# Altium footprint library ESP32.PcbLib: 12 footprints
Each footprint in its own frame and in the unit in brackets; x right, y up, seen from the top. Pads: shape width x height; smd on the part's side, far side on the other; paste and mask are expansions set on the pad; w line width, h text height; cw(c..) or ccw(c..) is an arc to the next point about the centre after c.
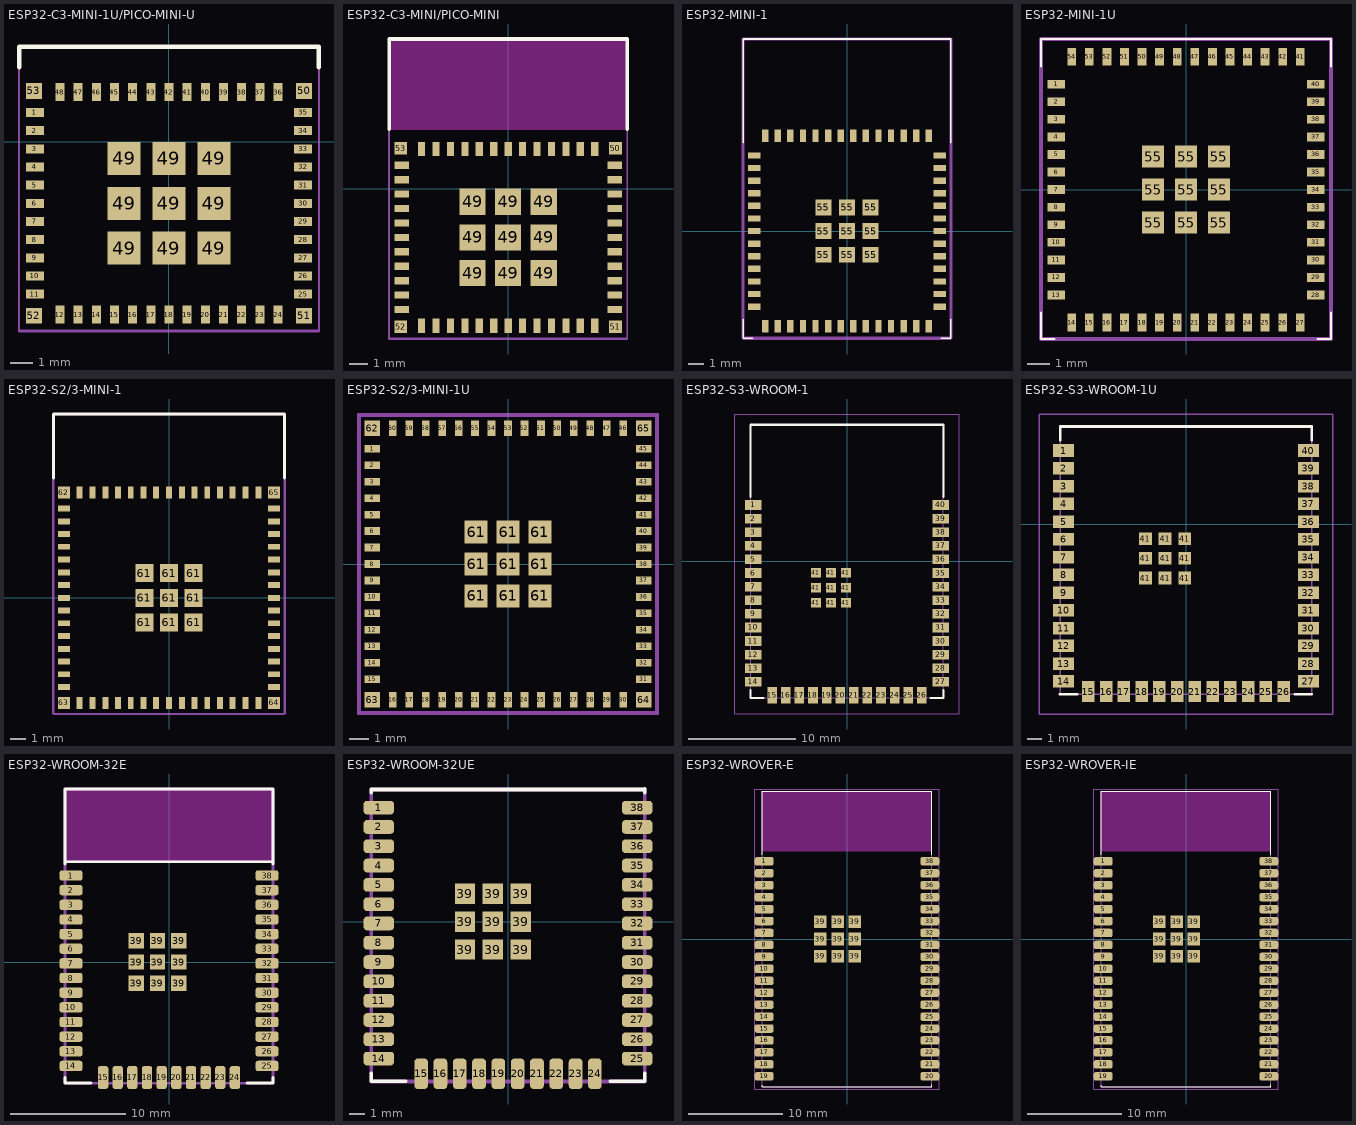
[diagram p0: the footprints below, top view; thin cyan lines are the x and y axes]

## ESP32-C3-MINI-1U/PICO-MINI-U [mm] "IPEX ANTENNA - 53 PIN"
pads (61):
  rect 0.8x0.4 smd: 1(-5.9,1.3) 2(-5.9,0.5) 3(-5.9,-0.3) 4(-5.9,-1.1) 5(-5.9,-1.9) 6(-5.9,-2.7) 7(-5.9,-3.5) 8(-5.9,-4.3) 9(-5.9,-5.1) 10(-5.9,-5.9) 11(-5.9,-6.7) 25(5.9,-6.7) 26(5.9,-5.9) 27(5.9,-5.1) 28(5.9,-4.3) 29(5.9,-3.5) 30(5.9,-2.7) 31(5.9,-1.9) 32(5.9,-1.1) 33(5.9,-0.3) 34(5.9,0.5) 35(5.9,1.3)
  rect 0.4x0.8 smd: 12(-4.8,-7.6) 13(-4,-7.6) 14(-3.2,-7.6) 15(-2.4,-7.6) 16(-1.6,-7.6) 17(-0.8,-7.6) 18(0,-7.6) 19(0.8,-7.6) 20(1.6,-7.6) 21(2.4,-7.6) 22(3.2,-7.6) 23(4,-7.6) 24(4.8,-7.6) 36(4.8,2.2) 37(4,2.2) 38(3.2,2.2) 39(2.4,2.2) 40(1.6,2.2) 41(0.8,2.2) 42(0,2.2) 43(-0.8,2.2) 44(-1.6,2.2) 45(-2.4,2.2) 46(-3.2,2.2) 47(-4,2.2) 48(-4.8,2.2)
  rect 1.45x1.45 smd: 49(-1.975,-4.675) 49(-1.975,-2.7) 49(-1.975,-0.725) 49(0,-4.675) 49(0,-2.7) 49(0,-0.725) 49(1.975,-4.675) 49(1.975,-2.7) 49(1.975,-0.725)
  rect 0.7x0.7 smd: 50(5.95,2.25) 51(5.95,-7.65) 52(-5.95,-7.65) 53(-5.95,2.25)
Top Overlay:
  lines w0.2: -6.6,3.3 -6.6,4.195 ; -6.6,4.191 6.6,4.191 6.6,3.3
Mechanical 13:
  lines w0.1: -6.6,-8.3 6.6,-8.3 6.6,4.191 -6.6,4.191 -6.6,-8.3
Mechanical 15:
  lines w0.1: -6.604,-8.335 6.604,-8.335 6.604,4.191 -6.604,4.191 -6.604,-8.335
3D body "ESP32-PICO-MINI-02U.STEP": height 2.4, standoff 0, extent -6.596,-8.3 6.604,4.2

## ESP32-C3-MINI/PICO-MINI [mm] "PCB ANTENNA - 53 PIN"
pads (61):
  rect 0.8x0.4 smd: 1(-5.9,1.3) 2(-5.9,0.5) 3(-5.9,-0.3) 4(-5.9,-1.1) 5(-5.9,-1.9) 6(-5.9,-2.7) 7(-5.9,-3.5) 8(-5.9,-4.3) 9(-5.9,-5.1) 10(-5.9,-5.9) 11(-5.9,-6.7) 25(5.9,-6.7) 26(5.9,-5.9) 27(5.9,-5.1) 28(5.9,-4.3) 29(5.9,-3.5) 30(5.9,-2.7) 31(5.9,-1.9) 32(5.9,-1.1) 33(5.9,-0.3) 34(5.9,0.5) 35(5.9,1.3)
  rect 0.4x0.8 smd: 12(-4.8,-7.6) 13(-4,-7.6) 14(-3.2,-7.6) 15(-2.4,-7.6) 16(-1.6,-7.6) 17(-0.8,-7.6) 18(0,-7.6) 19(0.8,-7.6) 20(1.6,-7.6) 21(2.4,-7.6) 22(3.2,-7.6) 23(4,-7.6) 24(4.8,-7.6) 36(4.8,2.2) 37(4,2.2) 38(3.2,2.2) 39(2.4,2.2) 40(1.6,2.2) 41(0.8,2.2) 42(0,2.2) 43(-0.8,2.2) 44(-1.6,2.2) 45(-2.4,2.2) 46(-3.2,2.2) 47(-4,2.2) 48(-4.8,2.2)
  rect 1.45x1.45 smd: 49(-1.975,-4.675) 49(-1.975,-2.7) 49(-1.975,-0.725) 49(0,-4.675) 49(0,-2.7) 49(0,-0.725) 49(1.975,-4.675) 49(1.975,-2.7) 49(1.975,-0.725)
  rect 0.7x0.7 smd: 50(5.95,2.25) 51(5.95,-7.65) 52(-5.95,-7.65) 53(-5.95,2.25)
Top Overlay:
  lines w0.2: -6.6,8.3 -6.6,3.3 -6.6,8.3 ; -6.6,8.3 6.6,8.3 ; -6.6,8.3 6.6,8.3 ; 6.6,8.3 6.6,3.3 6.6,8.3
Keep-Out Layer:
  region: 6.6,3.28 -6.623,3.28 -6.623,8.3 6.6,8.3
Mechanical 13:
  lines w0.1: -6.6,-8.3 6.6,-8.3 6.6,8.3 -6.6,8.3 -6.6,-8.3
Mechanical 15:
  lines w0.1: -6.604,-8.335 6.604,-8.335 6.604,8.255 -6.604,8.255 -6.604,-8.335
3D body "ESP32-PICO-MINI-02.STEP": height 2.4, standoff 0, extent -6.596,-8.3 6.604,8.3

## ESP32-MINI-1 [mm] "PCB ANTENNA - 55 PIN"
pads (63):
  rect 0.8x0.4 smd: 1(-5.9,4.8) 2(-5.9,4) 3(-5.9,3.2) 4(-5.9,2.4) 5(-5.9,1.6) 6(-5.9,0.8) 7(-5.9,0) 8(-5.9,-0.8) 9(-5.9,-1.6) 10(-5.9,-2.4) 11(-5.9,-3.2) 12(-5.9,-4) 13(-5.9,-4.8) 28(5.9,-4.8) 29(5.9,-4) 30(5.9,-3.2) 31(5.9,-2.4) 32(5.9,-1.6) 33(5.9,-0.8) 34(5.9,0) 35(5.9,0.8) 36(5.9,1.6) 37(5.9,2.4) 38(5.9,3.2) 39(5.9,4) 40(5.9,4.8)
  rect 0.4x0.8 smd: 14(-5.2,-6.05) 15(-4.4,-6.05) 16(-3.6,-6.05) 17(-2.8,-6.05) 18(-2,-6.05) 19(-1.2,-6.05) 20(-0.4,-6.05) 21(0.4,-6.05) 22(1.2,-6.05) 23(2,-6.05) 24(2.8,-6.05) 25(3.6,-6.05) 26(4.4,-6.05) 27(5.2,-6.05) 41(5.2,6.05) 42(4.4,6.05) 43(3.6,6.05) 44(2.8,6.05) 45(2,6.05) 46(1.2,6.05) 47(0.4,6.05) 48(-0.4,6.05) 49(-1.2,6.05) 50(-2,6.05) 51(-2.8,6.05) 52(-3.6,6.05) 53(-4.4,6.05) 54(-5.2,6.05)
  rect 1x1 smd: 55(-1.5,-1.5) 55(-1.5,0) 55(-1.5,1.5) 55(0,-1.5) 55(0,0) 55(0,1.5) 55(1.5,-1.5) 55(1.5,0) 55(1.5,1.5)
Top Overlay:
  lines w0.1: -6.6,-6.8 -6,-6.8 -6.6,-6.8 ; -6.6,-6.8 -6.6,-5.6 -6.6,-6.8 ; -6.6,12.2 6.6,12.2 ; -6.6,12.2 6.6,12.2 ; -6.6,12.2 -6.6,5.6 -6.6,12.2 ; 6.6,-6.8 6.6,-5.6 6.6,-6.8 ; 6.6,-6.8 6,-6.8 6.6,-6.8 ; 6.6,12.2 6.6,5.6 6.6,12.2
Mechanical 13:
  lines w0.2: -6.6,-6.8 -6.6,12.2 6.6,12.2 6.6,-6.8 -6.6,-6.8
Mechanical 15:
  lines w0.1: -6.604,-6.858 -6.604,12.192 6.604,12.192 6.604,-6.858 -6.604,-6.858
3D body "ESP32-MINI-1.STEP": height 2.4, standoff 0, extent -6.6,-6.8 6.6,12.2

## ESP32-MINI-1U [mm] "IPEX ANTENNA - 55 PIN"
pads (63):
  rect 0.8x0.4 smd: 1(-5.9,4.8) 2(-5.9,4) 3(-5.9,3.2) 4(-5.9,2.4) 5(-5.9,1.6) 6(-5.9,0.8) 7(-5.9,0) 8(-5.9,-0.8) 9(-5.9,-1.6) 10(-5.9,-2.4) 11(-5.9,-3.2) 12(-5.9,-4) 13(-5.9,-4.8) 28(5.9,-4.8) 29(5.9,-4) 30(5.9,-3.2) 31(5.9,-2.4) 32(5.9,-1.6) 33(5.9,-0.8) 34(5.9,0) 35(5.9,0.8) 36(5.9,1.6) 37(5.9,2.4) 38(5.9,3.2) 39(5.9,4) 40(5.9,4.8)
  rect 0.4x0.8 smd: 14(-5.2,-6.05) 15(-4.4,-6.05) 16(-3.6,-6.05) 17(-2.8,-6.05) 18(-2,-6.05) 19(-1.2,-6.05) 20(-0.4,-6.05) 21(0.4,-6.05) 22(1.2,-6.05) 23(2,-6.05) 24(2.8,-6.05) 25(3.6,-6.05) 26(4.4,-6.05) 27(5.2,-6.05) 41(5.2,6.05) 42(4.4,6.05) 43(3.6,6.05) 44(2.8,6.05) 45(2,6.05) 46(1.2,6.05) 47(0.4,6.05) 48(-0.4,6.05) 49(-1.2,6.05) 50(-2,6.05) 51(-2.8,6.05) 52(-3.6,6.05) 53(-4.4,6.05) 54(-5.2,6.05)
  rect 1x1 smd: 55(-1.5,-1.5) 55(-1.5,0) 55(-1.5,1.5) 55(0,-1.5) 55(0,0) 55(0,1.5) 55(1.5,-1.5) 55(1.5,0) 55(1.5,1.5)
Top Overlay:
  lines w0.1: -6.604,6.858 -6.6,5.6 -6.604,6.858 ; -6.604,6.858 6.6,6.858 ; -6.6,-6.8 -6.6,-5.6 -6.6,-6.8 ; -6.6,-6.8 -6,-6.8 -6.6,-6.8 ; 6.6,-6.8 6,-6.8 6.6,-6.8 ; 6.6,-6.8 6.6,-5.6 6.6,-6.8 ; 6.6,6.858 6.6,5.6 6.6,6.858
Mechanical 13:
  lines w0.2: -6.6,-6.8 6.6,-6.8 6.6,6.858 -6.6,6.858 -6.6,-6.8
Mechanical 15:
  lines w0.1: -6.604,-6.788 6.604,-6.788 6.604,6.858 -6.604,6.858 -6.604,-6.788

## ESP32-S2/3-MINI-1 [mm] "PCB ANTENNA - 65 PIN"
pads (73):
  rect 0.8x0.4 smd: 1(-7,5.95) 2(-7,5.1) 3(-7,4.25) 4(-7,3.4) 5(-7,2.55) 6(-7,1.7) 7(-7,0.85) 8(-7,0) 9(-7,-0.85) 10(-7,-1.7) 11(-7,-2.55) 12(-7,-3.4) 13(-7,-4.25) 14(-7,-5.1) 15(-7,-5.95) 31(7,-5.95) 32(7,-5.1) 33(7,-4.25) 34(7,-3.4) 35(7,-2.55) 36(7,-1.7) 37(7,-0.85) 38(7,0) 39(7,0.85) 40(7,1.7) 41(7,2.55) 42(7,3.4) 43(7,4.25) 44(7,5.1) 45(7,5.95)
  rect 0.4x0.8 smd: 16(-5.95,-7) 17(-5.1,-7) 18(-4.25,-7) 19(-3.4,-7) 20(-2.55,-7) 21(-1.7,-7) 22(-0.85,-7) 23(0,-7) 24(0.85,-7) 25(1.7,-7) 26(2.55,-7) 27(3.4,-7) 28(4.25,-7) 29(5.1,-7) 30(5.95,-7) 46(5.95,7) 47(5.1,7) 48(4.25,7) 49(3.4,7) 50(2.55,7) 51(1.7,7) 52(0.85,7) 53(0,7) 54(-0.85,7) 55(-1.7,7) 56(-2.55,7) 57(-3.4,7) 58(-4.25,7) 59(-5.1,7) 60(-5.95,7)
  rect 1.2x1.2 smd: 61(-1.65,-1.65) 61(-1.65,0) 61(-1.65,1.65) 61(0,-1.65) 61(0,0) 61(0,1.65) 61(1.65,-1.65) 61(1.65,0) 61(1.65,1.65)
  rect 0.8x0.8 smd: 62(-7,7) 63(-7,-7) 64(7,-7) 65(7,7)
Top Overlay:
  lines w0.2: -7.7,8 -7.7,12.25 7.7,12.25 7.7,8
Mechanical 13:
  lines w0.1: -7.7,-7.75 7.7,-7.75 7.7,12.25 -7.7,12.25 -7.7,-7.75
Mechanical 15:
  lines w0.1: -7.747,-7.747 7.747,-7.747 7.747,12.192 -7.747,12.192 -7.747,-7.747
3D body "ESP32-S2-MINI-1.STEP": height 2.4, standoff 0, extent -7.7,-7.75 7.7,12.25

## ESP32-S2/3-MINI-1U [mm] "IPEX ANTENNA - 65 PIN"
pads (73):
  rect 0.8x0.4 smd: 1(-7,5.95) 2(-7,5.1) 3(-7,4.25) 4(-7,3.4) 5(-7,2.55) 6(-7,1.7) 7(-7,0.85) 8(-7,0) 9(-7,-0.85) 10(-7,-1.7) 11(-7,-2.55) 12(-7,-3.4) 13(-7,-4.25) 14(-7,-5.1) 15(-7,-5.95) 31(7,-5.95) 32(7,-5.1) 33(7,-4.25) 34(7,-3.4) 35(7,-2.55) 36(7,-1.7) 37(7,-0.85) 38(7,0) 39(7,0.85) 40(7,1.7) 41(7,2.55) 42(7,3.4) 43(7,4.25) 44(7,5.1) 45(7,5.95)
  rect 0.4x0.8 smd: 16(-5.95,-7) 17(-5.1,-7) 18(-4.25,-7) 19(-3.4,-7) 20(-2.55,-7) 21(-1.7,-7) 22(-0.85,-7) 23(0,-7) 24(0.85,-7) 25(1.7,-7) 26(2.55,-7) 27(3.4,-7) 28(4.25,-7) 29(5.1,-7) 30(5.95,-7) 46(5.95,7) 47(5.1,7) 48(4.25,7) 49(3.4,7) 50(2.55,7) 51(1.7,7) 52(0.85,7) 53(0,7) 54(-0.85,7) 55(-1.7,7) 56(-2.55,7) 57(-3.4,7) 58(-4.25,7) 59(-5.1,7) 60(-5.95,7)
  rect 1.2x1.2 smd: 61(-1.65,-1.65) 61(-1.65,0) 61(-1.65,1.65) 61(0,-1.65) 61(0,0) 61(0,1.65) 61(1.65,-1.65) 61(1.65,0) 61(1.65,1.65)
  rect 0.8x0.8 smd: 62(-7,7) 63(-7,-7) 64(7,-7) 65(7,7)
Mechanical 13:
  lines w0.2: -7.7,-7.7 -7.7,7.7 7.7,7.7 7.7,-7.7 -7.7,-7.7
Mechanical 15:
  lines w0.1: -7.747,-7.747 -7.747,7.747 7.747,7.747 7.747,-7.747 -7.747,-7.747
3D body "ESP32-S2-MINI-1U.STEP": height 2.4, standoff 0, extent -7.7,-7.7 7.7,7.7

## ESP32-S3-WROOM-1 [mm] "PCB ANTENNA - 41 PIN"
pads (49):
  rect 1.5x0.9 smd: 1(-8.75,5.26) 2(-8.75,3.99) 3(-8.75,2.72) 4(-8.75,1.45) 5(-8.75,0.18) 6(-8.75,-1.09) 7(-8.75,-2.36) 8(-8.75,-3.63) 9(-8.75,-4.9) 10(-8.75,-6.17) 11(-8.75,-7.44) 12(-8.75,-8.71) 13(-8.75,-9.98) 14(-8.75,-11.25) 27(8.75,-11.25) 28(8.75,-9.98) 29(8.75,-8.71) 30(8.75,-7.44) 31(8.75,-6.17) 32(8.75,-4.9) 33(8.75,-3.63) 34(8.75,-2.36) 35(8.75,-1.09) 36(8.75,0.18) 37(8.75,1.45) 38(8.75,2.72) 39(8.75,3.99) 40(8.75,5.26)
  rect 0.9x1.5 smd: 15(-6.985,-12.5) 16(-5.715,-12.5) 17(-4.445,-12.5) 18(-3.175,-12.5) 19(-1.905,-12.5) 20(-0.635,-12.5) 21(0.635,-12.5) 22(1.905,-12.5) 23(3.175,-12.5) 24(4.445,-12.5) 25(5.715,-12.5) 26(6.985,-12.5)
  rect 0.9x0.9 smd: 41(-2.9,-3.86) 41(-2.9,-2.46) 41(-2.9,-1.06) 41(-1.5,-3.86) 41(-1.5,-2.46) 41(-1.5,-1.06) 41(-0.1,-3.86) 41(-0.1,-2.46) 41(-0.1,-1.06)
Top Overlay:
  lines w0.2: -9,-12 -9,-12.75 -7.8,-12.75 ; -9,6 -9,12.75 9,12.75 9,6 ; 7.8,-12.75 9,-12.75 9,-12
Mechanical 13:
  lines w0.1: -9,-12.75 -9,12.75 9,12.75 9,-12.75 -9,-12.75
Mechanical 15:
  lines w0.1: -10.5,-14.25 -10.5,13.75 10.5,13.75 10.5,-14.25 -10.5,-14.25
3D body "ESP32-S3-WROOM-1.STEP": height 3.1, standoff 0, extent -9,-12.75 9,12.75

## ESP32-S3-WROOM-1U [mm] "IPEX ANTENNA - 41 PIN"
pads (49):
  rect 1.5x0.9 smd: 1(-8.75,5.26) 2(-8.75,3.99) 3(-8.75,2.72) 4(-8.75,1.45) 5(-8.75,0.18) 6(-8.75,-1.09) 7(-8.75,-2.36) 8(-8.75,-3.63) 9(-8.75,-4.9) 10(-8.75,-6.17) 11(-8.75,-7.44) 12(-8.75,-8.71) 13(-8.75,-9.98) 14(-8.75,-11.25) 27(8.75,-11.25) 28(8.75,-9.98) 29(8.75,-8.71) 30(8.75,-7.44) 31(8.75,-6.17) 32(8.75,-4.9) 33(8.75,-3.63) 34(8.75,-2.36) 35(8.75,-1.09) 36(8.75,0.18) 37(8.75,1.45) 38(8.75,2.72) 39(8.75,3.99) 40(8.75,5.26)
  rect 0.9x1.5 smd: 15(-6.985,-11.992) 16(-5.715,-11.992) 17(-4.445,-11.992) 18(-3.175,-11.992) 19(-1.905,-11.992) 20(-0.635,-11.992) 21(0.635,-11.992) 22(1.905,-11.992) 23(3.175,-11.992) 24(4.445,-11.992) 25(5.715,-11.992) 26(6.985,-11.992)
  rect 0.9x0.9 smd: 41(-2.9,-3.86) 41(-2.9,-2.46) 41(-2.9,-1.06) 41(-1.5,-3.86) 41(-1.5,-2.46) 41(-1.5,-1.06) 41(-0.1,-3.86) 41(-0.1,-2.46) 41(-0.1,-1.06)
Top Overlay:
  lines w0.2: -9.006,-12.172 -7.806,-12.172 ; -9,6 -9,6.985 9,6.985 9,6 ; 7.794,-12.172 8.994,-12.172
Mechanical 13:
  lines w0.1: -9,-12.192 -9,6.985 9,6.985 9,-12.192 -9,-12.192
Mechanical 15:
  lines w0.1: -10.5,-13.589 -10.5,7.874 10.5,7.874 10.5,-13.589 -10.5,-13.589
3D body "ESP32-S3-WROOM-1U.STEP": height 3.2, standoff 0, extent -9.017,-12.192 8.983,7.008

## ESP32-WROOM-32E [mm] "PCB ANTENNA - 38 PIN"
height 3.2
pads (47):
  rrect50% 2x0.9 smd: 1(-8.5,7.5) 2(-8.5,6.23) 3(-8.5,4.96) 4(-8.5,3.69) 5(-8.5,2.42) 6(-8.5,1.15) 7(-8.5,-0.12) 8(-8.5,-1.39) 9(-8.5,-2.66) 10(-8.5,-3.93) 11(-8.5,-5.2) 12(-8.5,-6.47) 13(-8.5,-7.74) 14(-8.5,-9.01) 25(8.5,-9.01) 26(8.5,-7.74) 27(8.5,-6.47) 28(8.5,-5.2) 29(8.5,-3.93) 30(8.5,-2.66) 31(8.5,-1.39) 32(8.5,-0.12) 33(8.5,1.15) 34(8.5,2.42) 35(8.5,3.69) 36(8.5,4.96) 37(8.5,6.23) 38(8.5,7.5)
  rrect50% 0.9x2 smd: 15(-5.715,-10.01) 16(-4.445,-10.01) 17(-3.175,-10.01) 18(-1.905,-10.01) 19(-0.635,-10.01) 20(0.635,-10.01) 21(1.905,-10.01) 22(3.175,-10.01) 23(4.445,-10.01) 24(5.715,-10.01)
  rect 1.33x1.33 smd: 39(-2.835,-1.835) 39(-2.835,0) 39(-2.835,1.835) 39(-1,-1.835) 39(-1,0) 39(-1,1.835) 39(0.835,-1.835) 39(0.835,0) 39(0.835,1.835)
Top Overlay:
  lines w0.254: -9,-10 -9,-10.5 -6.75,-10.5 ; -9,8.5 -9,15 9,15 9,8.5 ; -9,8.69 9,8.69 ; 6.75,-10.5 9,-10.5 9,-10
Keep-Out Layer:
  rectangle: -9,8.69 9,15
Mechanical 11:
  lines w0.254: -9,8.69 9,8.69 ; -9,-10.51 9,-10.51 9,14.99 -9,14.99 -9,-10.51
3D body "ESP32-WROOM-32E.STEP": height 3.2, standoff 0.1, extent -9,-10.541 9,14.959

## ESP32-WROOM-32UE [mm] "IPEX ANTENNA - 38 PIN"
height 3.2
pads (47):
  rrect50% 2x0.9 smd: 1(-8.5,7.5) 2(-8.5,6.23) 3(-8.5,4.96) 4(-8.5,3.69) 5(-8.5,2.42) 6(-8.5,1.15) 7(-8.5,-0.12) 8(-8.5,-1.39) 9(-8.5,-2.66) 10(-8.5,-3.93) 11(-8.5,-5.2) 12(-8.5,-6.47) 13(-8.5,-7.74) 14(-8.5,-9.01) 25(8.5,-9.01) 26(8.5,-7.74) 27(8.5,-6.47) 28(8.5,-5.2) 29(8.5,-3.93) 30(8.5,-2.66) 31(8.5,-1.39) 32(8.5,-0.12) 33(8.5,1.15) 34(8.5,2.42) 35(8.5,3.69) 36(8.5,4.96) 37(8.5,6.23) 38(8.5,7.5)
  rrect50% 0.9x2 smd: 15(-5.715,-10.01) 16(-4.445,-10.01) 17(-3.175,-10.01) 18(-1.905,-10.01) 19(-0.635,-10.01) 20(0.635,-10.01) 21(1.905,-10.01) 22(3.175,-10.01) 23(4.445,-10.01) 24(5.715,-10.01)
  rect 1.33x1.33 smd: 39(-2.835,-1.835) 39(-2.835,0) 39(-2.835,1.835) 39(-1,-1.835) 39(-1,0) 39(-1,1.835) 39(0.835,-1.835) 39(0.835,0) 39(0.835,1.835)
Top Overlay:
  lines w0.254: -9,-10 -9,-10.5 -6.75,-10.5 ; -9,8.5 -9,8.704 ; -9,8.69 9,8.69 ; 6.75,-10.5 9,-10.5 9,-10 ; 9,8.5 9,8.727
Mechanical 11:
  lines w0.254: -9,8.691 9,8.691 ; -9,8.69 9,8.69 ; -9,8.691 -9,-10.51 9,-10.51 9,8.691
3D body "ESP32-WROOM-32UE.STEP": height 3.23, standoff 0.03, extent -9,-10.541 9,8.659

## ESP32-WROVER-E [mm] "PCB ANTENNA - 38 PIN"
pads (47):
  rrect50% 2x0.9 smd: 1(-8.81,8.26) 2(-8.81,6.99) 3(-8.81,5.72) 4(-8.81,4.45) 5(-8.81,3.18) 6(-8.81,1.91) 7(-8.81,0.64) 8(-8.81,-0.63) 9(-8.81,-1.9) 10(-8.81,-3.17) 11(-8.81,-4.44) 12(-8.81,-5.71) 13(-8.81,-6.98) 14(-8.81,-8.25) 15(-8.81,-9.52) 16(-8.81,-10.79) 17(-8.81,-12.06) 18(-8.81,-13.33) 19(-8.81,-14.6) 20(8.81,-14.6) 21(8.81,-13.33) 22(8.81,-12.06) 23(8.81,-10.79) 24(8.81,-9.52) 25(8.81,-8.25) 26(8.81,-6.98) 27(8.81,-5.71) 28(8.81,-4.44) 29(8.81,-3.17) 30(8.81,-1.9) 31(8.81,-0.63) 32(8.81,0.64) 33(8.81,1.91) 34(8.81,3.18) 35(8.81,4.45) 36(8.81,5.72) 37(8.81,6.99) 38(8.81,8.26)
  rect 1.33x1.33 smd: 39(-2.835,-1.835) 39(-2.835,0) 39(-2.835,1.835) 39(-1,-1.835) 39(-1,0) 39(-1,1.835) 39(0.835,-1.835) 39(0.835,0) 39(0.835,1.835)
Top Overlay:
  lines w0.127: -9,-15.55 -9,-15.7 9,-15.7 9,-15.5 ; -9,8.95 -9,15.7 9,15.7 9,8.95
Keep-Out Layer:
  region: 9,9.324 -9.023,9.324 -9.023,15.7 9,15.7
  region: 9,9.331 -9.03,9.331 -9.03,15.7 9,15.7
  region: 9,9.33 -9.029,9.33 -9.029,15.7 9,15.7
Mechanical 13:
  lines w0.127: -9,-15.7 9,-15.7 9,15.7 -9,15.7 -9,-15.7
Mechanical 15:
  lines w0.05: -9.8,-15.95 9.8,-15.95 9.8,15.95 -9.8,15.95 -9.8,-15.95
3D body "ESP32-WROVER-E.STEP": height 3.3, standoff 0, extent -9,-15.748 9,15.652

## ESP32-WROVER-IE [mm] "IPEX ANTENNA - 38 PIN"
pads (47):
  rrect50% 2x0.9 smd: 1(-8.81,8.26) 2(-8.81,6.99) 3(-8.81,5.72) 4(-8.81,4.45) 5(-8.81,3.18) 6(-8.81,1.91) 7(-8.81,0.64) 8(-8.81,-0.63) 9(-8.81,-1.9) 10(-8.81,-3.17) 11(-8.81,-4.44) 12(-8.81,-5.71) 13(-8.81,-6.98) 14(-8.81,-8.25) 15(-8.81,-9.52) 16(-8.81,-10.79) 17(-8.81,-12.06) 18(-8.81,-13.33) 19(-8.81,-14.6) 20(8.81,-14.6) 21(8.81,-13.33) 22(8.81,-12.06) 23(8.81,-10.79) 24(8.81,-9.52) 25(8.81,-8.25) 26(8.81,-6.98) 27(8.81,-5.71) 28(8.81,-4.44) 29(8.81,-3.17) 30(8.81,-1.9) 31(8.81,-0.63) 32(8.81,0.64) 33(8.81,1.91) 34(8.81,3.18) 35(8.81,4.45) 36(8.81,5.72) 37(8.81,6.99) 38(8.81,8.26)
  rect 1.33x1.33 smd: 39(-2.835,-1.835) 39(-2.835,0) 39(-2.835,1.835) 39(-1,-1.835) 39(-1,0) 39(-1,1.835) 39(0.835,-1.835) 39(0.835,0) 39(0.835,1.835)
Top Overlay:
  lines w0.127: -9,-15.55 -9,-15.7 9,-15.7 9,-15.5 ; -9,8.95 -9,15.7 9,15.7 9,8.95
Keep-Out Layer:
  region: 9,9.324 -9.023,9.324 -9.023,15.7 9,15.7
  region: 9,9.331 -9.03,9.331 -9.03,15.7 9,15.7
  region: 9,9.33 -9.029,9.33 -9.029,15.7 9,15.7
Mechanical 13:
  lines w0.127: -9,-15.7 9,-15.7 9,15.7 -9,15.7 -9,-15.7
Mechanical 15:
  lines w0.05: -9.8,-15.95 9.8,-15.95 9.8,15.95 -9.8,15.95 -9.8,-15.95
3D body "ESP32-WROVER-IE.STEP": height 3.3, standoff 0, extent -9,-15.748 9,15.652